# Altium schematic symbol library UniversalFullBridge.SchLib: 9 symbols
Pins are listed as number, name and electrical type; pins without a type are passive.

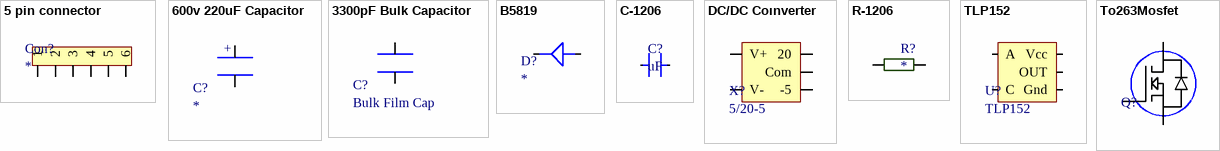
[diagram p0: symbols 5 pin connector to To263Mosfet]

## 5 pin connector
designator Con?
footprint pinheader
pins: 1, 2, 3, 4, 5, 6

## 600v 220uF Capacitor
designator C?
footprint 600v Capacitor
pins: 1, 2
text: +

## 3300pF Bulk Capacitor
designator C?, comment Bulk Film Cap
footprint Bulk cappacitor
pins: 1, 2

## B5819
designator D?
footprint B5819
pins: 1, 2

## C-1206
designator C?, comment uF
footprint C-1206W (capacitor 1206 wave soldering)
pins: 1, 2

## DC/DC Coınverter
designator X?, comment 5/20-5
footprint sip7DCDC converter
pins: 1 V+, 2 V-, 5 -5, 6 Com, 7 20

## R-1206
designator R?
Res1206
footprint R-1206W (resistor 1206 wave soldering)
pins: 1, 2

## TLP152
designator U?
footprint tlp152
pins: 1 A, 3 C, 4 Gnd, 5 OUT, 6 Vcc

## To263Mosfet
designator Q?  (value not drawn)
footprint To263Mosfet
pins: 1 G, 2 D, 3 S